# Altium footprint library PcbLib1.PcbLib: 1 footprints
Each footprint in its own frame and in the unit in brackets; x right, y up, seen from the top. Pads: shape width x height; smd on the part's side, far side on the other; paste and mask are expansions set on the pad; w line width, h text height; cw(c..) or ccw(c..) is an arc to the next point about the centre after c.
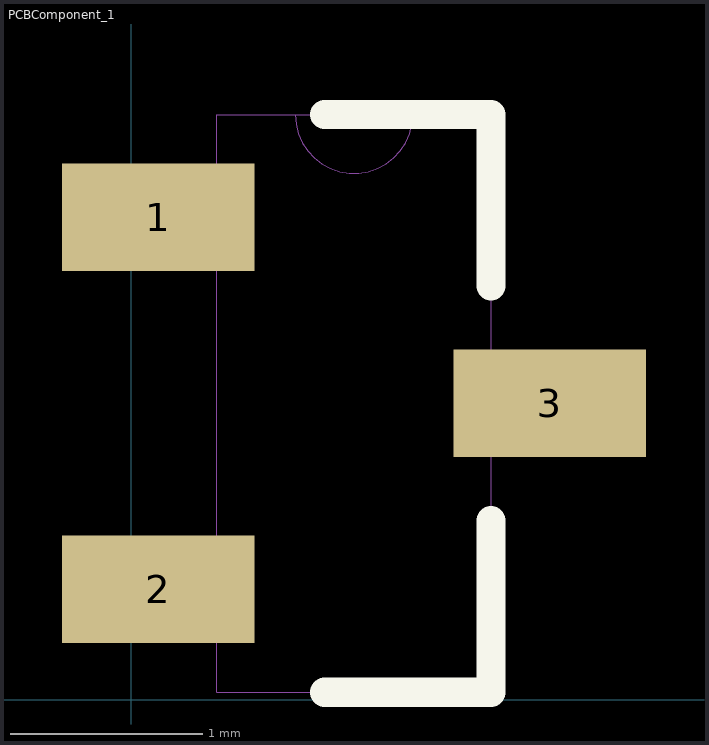
[diagram p0: the footprint, top view; thin cyan lines are the x and y axes]

## PCBComponent_1 [mm]
pads (3):
  rect 1x0.559 smd: 1(0.139,2.504) 2(0.139,0.574) 3(2.171,1.539)
Top Overlay:
  lines w0.152: 1.003,0.04 1.866,0.04 1.866,0.929 ; 1.003,3.037 1.46,3.037 1.866,3.037 1.866,2.148
Mechanical 13:
  lines w0: 0.444,0.32 -0.09,0.32 -0.09,0.828 0.444,0.828 ; 0.444,0.32 0.444,0.828 ; 0.444,0.32 0.444,0.04 1.866,0.04 1.866,1.285 ; 0.444,0.828 0.444,2.25 ; 0.444,2.25 -0.09,2.25 -0.09,2.758 0.444,2.758 ; 0.444,2.25 0.444,2.758 ; 0.444,2.758 0.444,3.037 0.85,3.037 ; 0.85,3.037 ccw(c1.155,3.037) 1.46,3.037 ; 0.85,3.037 1.46,3.037 ; 1.46,3.037 1.866,3.037 1.866,1.793 ; 1.866,1.285 2.4,1.285 2.4,1.793 1.866,1.793 ; 1.866,1.285 1.866,1.793
3D body "step_temp.STEP": height 1.15, standoff 0, extent -0.045,0.089 2.355,2.989